# Altium schematic symbol library Mp.SchLib: 1 symbol
Pins are listed as number, name and electrical type; pins without a type are passive.

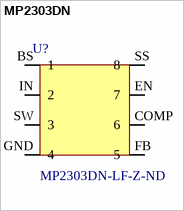
[diagram p0: symbol MP2303DN]

## MP2303DN
designator U?, comment Supplier Part Number 1: MP2303DN-LF-Z-ND  (hidden comment: Buck Switching Regulator IC Positive Adjustable 0.8V 1 Output 3A 8-SOIC (0.154", 3.90mm Width) Exposed Pad)
The MP2303 is a monolithic synchronous buck regulator. The device integrates power MOSFETS that provide 3A continuous load current over a wide operating input voltage of 4.75V to 28V. Current mode control provides fast transient response and cycle-by-cycle current limit.  An adjustable soft-start prevents inrush current at turn-on. In shutdown mode, the supply current drops to 1μA.  This device, available in 8-pin SOIC and 3x3 10-pin QFN packages, provides a very compact system solution with minimal reliance on external components.; Supplier 1: Digikey
footprint SOIC127P600X170-9N
pins: BS 1, COMP 6, EN 7, FB 5, GND 4, IN 2, SS 8, SW 3